# Altium integrated library 7461098_Altium_WP-SHFU_rev19a.IntLib: 7 symbols
Pins are listed as number, name and electrical type; pins without a type are passive.

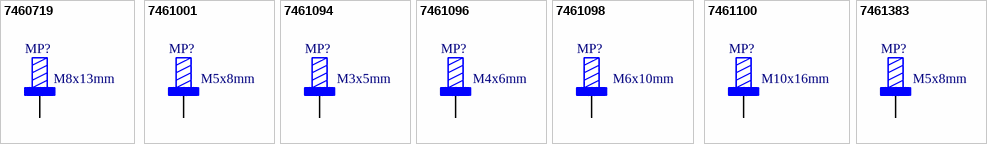
[diagram p0: symbols 7460719 to 7461383]

## 7460719
designator MP?, comment M8x13mm
WP-SHFU Press-Fit with External thread, full plain, 13x13mm, 25 pins, M8x13mm, 250A; Part Number: 7460719; Pin Number: 25; Thread Length: 13mm; Thread: M8; Surface: Tin; ComponentLink1Description: Manufacturer; ComponentLink1URL: http://www.we-online.de; ComponentLink2Description: Datasheet; ComponentLink2URL: https://katalog.we-online.com/em/datasheet/7460719.pdf; Operating Temperature: -55 to +150degC; Height: 20.5mm; Material: Brass; Packaging: Bulk; Mounting Technology: Press-Fit; Rated Current: 250A; Publisher: Wurth Elektronik; Published Date: September 2019; Size: 13x13mm
footprint 7460719_for HAL
footprint 7460719_for chemical surfaces
pins: 1

## 7461001
designator MP?, comment M5x8mm
WP-SHFU Press-Fit with External thread, full plain, 7x7mm, 9 pins, M5x8mm, 130A; Part Number: 7461001; Pin Number: 9; Thread Length: 8mm; Thread: M5; Surface: Tin; ComponentLink1Description: Manufacturer; ComponentLink1URL: http://www.we-online.de; ComponentLink2Description: Datasheet; ComponentLink2URL: https://katalog.we-online.com/em/datasheet/7461001.pdf; Operating Temperature: -55 to +150degC; Height: 12mm; Material: Brass; Packaging: Bulk; Mounting Technology: Press-Fit; Rated Current: 130A; Publisher: Wurth Elektronik; Published Date: September 2019; Size: 7x7mm
footprint 7461001_for HAL
footprint 7461001_for chemical surfaces
pins: 1

## 7461094
designator MP?, comment M3x5mm
WP-SHFU Press-Fit with External thread, full plain, 7x7mm, 9 pins, M3x5mm, 130A; Part Number: 7461094; Pin Number: 9; Thread Length: 5mm; Thread: M3; Surface: Tin; ComponentLink1Description: Manufacturer; ComponentLink1URL: http://www.we-online.de; ComponentLink2Description: Datasheet; ComponentLink2URL: https://katalog.we-online.com/em/datasheet/7461094.pdf; Operating Temperature: -55 to +150degC; Height: 7.5mm; Material: Brass; Packaging: Bulk; Mounting Technology: Press-Fit; Rated Current: 130A; Publisher: Wurth Elektronik; Published Date: September 2019; Size: 7x7mm
footprint 7461094_for HAL
footprint 7461094_for chemical surfaces
pins: 1

## 7461096
designator MP?, comment M4x6mm
WP-SHFU Press-Fit with External thread, full plain, 7x7mm, 9 pins, M4x6mm, 130A; Part Number: 7461096; Pin Number: 9; Thread Length: 6mm; Thread: M4; Surface: Tin; ComponentLink1Description: Manufacturer; ComponentLink1URL: http://www.we-online.de; ComponentLink2Description: Datasheet; ComponentLink2URL: https://katalog.we-online.com/em/datasheet/7461096.pdf; Operating Temperature: -55 to +150degC; Height: 9mm; Material: Brass; Packaging: Bulk; Mounting Technology: Press-Fit; Rated Current: 130A; Publisher: Wurth Elektronik; Published Date: September 2019; Size: 7x7mm
footprint 7461096_for HAL
footprint 7461096_for chemical surfaces
pins: 1

## 7461098
designator MP?, comment M6x10mm
WP-SHFU Press-Fit with External thread, full plain, 13x13mm, 25 pins, M6x10mm, 250A; Part Number: 7461098; Pin Number: 25; Thread Length: 10mm; Thread: M6; Surface: Tin; ComponentLink1Description: Manufacturer; ComponentLink1URL: http://www.we-online.de; ComponentLink2Description: Datasheet; ComponentLink2URL: https://katalog.we-online.com/em/datasheet/7461098.pdf; Operating Temperature: -55 to +150degC; Height: 15.5mm; Material: Brass; Packaging: Bulk; Mounting Technology: Press-Fit; Rated Current: 250A; Publisher: Wurth Elektronik; Published Date: September 2019; Size: 13x13mm
footprint 7461098_for HAL
footprint 7461098_for chemical surfaces
pins: 1

## 7461100
designator MP?, comment M10x16mm
WP-SHFU Press-Fit with External thread, full plain, 16x16mm, 36 pins, M10x16mm, 350A; Part Number: 7461100; Pin Number: 36; Thread Length: 16mm; Thread: M10; Surface: Tin; ComponentLink1Description: Manufacturer; ComponentLink1URL: http://www.we-online.de; ComponentLink2Description: Datasheet; ComponentLink2URL: https://katalog.we-online.com/em/datasheet/7461100.pdf; Operating Temperature: -55 to +150degC; Height: 24mm; Material: Brass; Packaging: Bulk; Mounting Technology: Press-Fit; Rated Current: 350A; Publisher: Wurth Elektronik; Published Date: September 2019; Size: 16x16mm
footprint 7461100_for HAL
footprint 7461100_for chemical surfaces
pins: 1

## 7461383
designator MP?, comment M5x8mm
WP-SHFU Press-Fit with External thread, full plain, 9x9mm, 16 pins, M5x8mm, 180A; Part Number: 7461383; Pin Number: 16; Thread Length: 8mm; Thread: M5; Surface: Tin; ComponentLink1Description: Manufacturer; ComponentLink1URL: http://www.we-online.de; ComponentLink2Description: Datasheet; ComponentLink2URL: https://katalog.we-online.com/em/datasheet/7461383.pdf; Operating Temperature: -55 to +150degC; Height: 12.5mm; Material: Brass; Packaging: Bulk; Mounting Technology: Press-Fit; Rated Current: 180A; Publisher: Wurth Elektronik; Published Date: September 2019; Size: 9x9mm
footprint 7461383_for HAL
footprint 7461383_for chemical surfaces
pins: 1